# Altium schematic symbol library Triac.SchLib: 1 symbol
Pins are listed as number, name and electrical type; pins without a type are passive.

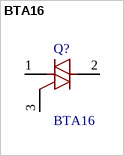
[diagram p0: symbol BTA16]

## BTA16
designator Q?
BTA16-600BRG-CN TRIAC 600V 16A TO-220
footprint TO-220N
pins: 1 T1, 2 T2, 3 GATE